# EAGLE library part LS7184N-S (library Spici_ControlBoard)
Quadrature Decoder for Rotary Quadrature Encoder of Moters https://lsicsi.com/datasheets/LS7183N_LS7184N.pdf
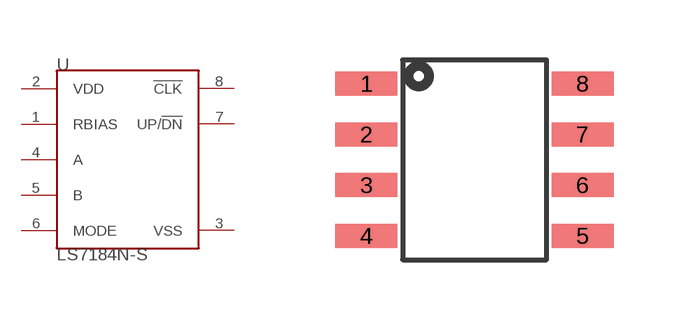
[diagram p3: symbol with the pads of 8-SOIC; footprint 8-SOIC]

Designator prefix U

## LS7184N-S  [8-SOIC]
1  RBIAS  pas
2  VDD  pas
3  VSS  pas
4  A  pas
5  B  pas
6  MODE
7  UP/!DN  pas
8  !CLK  pas

## Footprint 8-SOIC (pad centres in mm)
smd 1.55 x 0.6: 1 -2.7,1.905; 2 -2.7,0.635; 3 -2.7,-0.635; 4 -2.7,-1.905; 5 2.7,-1.905; 6 2.7,-0.635; 7 2.7,0.635; 8 2.7,1.905